# Altium footprint library ResVar.PcbLib: 1 footprints
Each footprint in its own frame and in the unit in brackets; x right, y up, seen from the top. Pads: shape width x height; smd on the part's side, far side on the other; paste and mask are expansions set on the pad; w line width, h text height; cw(c..) or ccw(c..) is an arc to the next point about the centre after c.
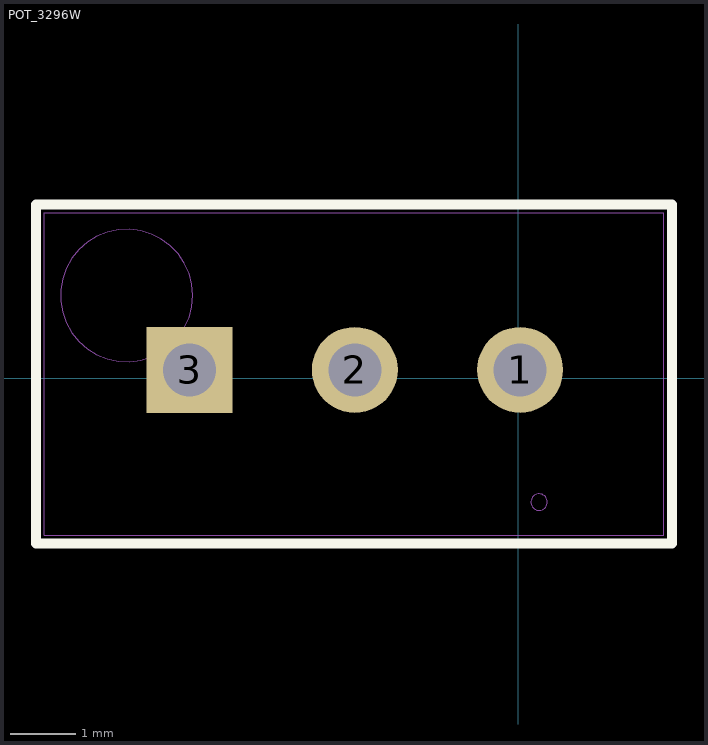
[diagram p0: the footprint, top view; thin cyan lines are the x and y axes]

## POT_3296W [mil]
pads (3):
  round 52 / inner round 60 / far side round 52 hole 32: 1(1,5) 2(-99,5)
  rect 52x52 / inner round 60 / far side rect 52x52 hole 32: 3(-199,5)
Top Overlay:
  lines w6: -292,-100 93,-100 93,105 -292,105 -292,-100
Mechanical 1:
  circle w0: c12.5,-75 r5
  circle w0: c-237,50 r40
  lines w0: -287,-95 88,-95 88,100 -287,100 -287,-95
3D body "POT_3296W.stp": height 455, standoff 0, extent -286.5,-92.5 88.5,102.5